# EAGLE library part MP6528 (library IC & Transistor)
MP6528 Brushed DC Motor H-Bridge Gate Driver. Created by: Idris
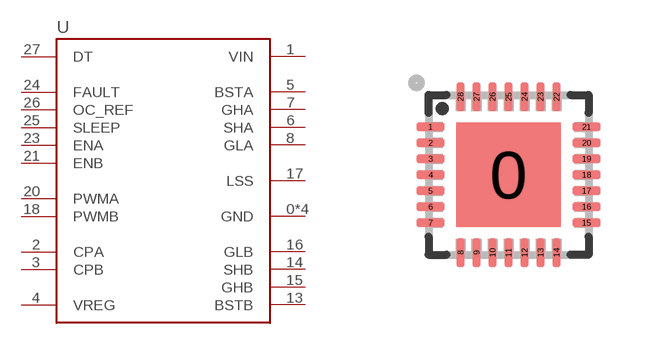
[diagram p39: symbol with the pads of QFN-28; footprint QFN-28]

Designator prefix U

## MP6528_(QFN-28) (CYTRON-PC: S-IC-MP6528-QFN28; DESC: SMD H-Bridge Gate Driver QFN28; MF: Monolithic Power Systems; MPN: MP6528GR-Z)  [QFN-28]
0  GND
1  VIN
2  CPA
3  CPB
4  VREG
5  BSTA
6  SHA
7  GHA
8  GLA
13  BSTB
14  SHB
15  GHB
16  GLB
17  LSS
18  PWMB
19  GND
20  PWMA
21  ENB
22  GND
23  ENA
24  FAULT
25  SLEEP
26  OC_REF
27  DT
28  GND

## Footprint QFN-28 (pad centres in mm)
Quad Flat No-leads Package Size: 4.0mm x 4.0mm Pitch: 0.4mm Created by: Idris
smd 2.6 x 2.6: 0 0,0
smd 0.7 x 0.2: 1 -1.95,1.2; 2 -1.95,0.8; 3 -1.95,0.4; 4 -1.95,0; 5 -1.95,-0.4; 6 -1.95,-0.8; 7 -1.95,-1.2; 15 1.95,-1.2; 16 1.95,-0.8; 17 1.95,-0.4; 18 1.95,0; 19 1.95,0.4; 20 1.95,0.8; 21 1.95,1.2
smd 0.2 x 0.7: 8 -1.2,-1.95; 9 -0.8,-1.95; 10 -0.4,-1.95; 11 0,-1.95; 12 0.4,-1.95; 13 0.8,-1.95; 14 1.2,-1.95; 22 1.2,1.95; 23 0.8,1.95; 24 0.4,1.95; 25 0,1.95; 26 -0.4,1.95; 27 -0.8,1.95; 28 -1.2,1.95